# Altium schematic symbol library SCH - POWER - LINEAR VREG - TI TPS79501QDRBRQ1.Schlib: 1 symbol
Pins are listed as number, name and electrical type; pins without a type are passive.

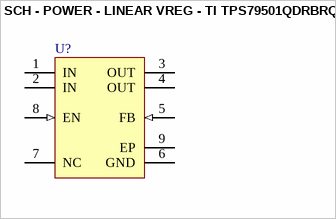
[diagram p0: symbol SCH - POWER - LINEAR VREG - TI TPS79501QDRBRQ1]

## SCH - POWER - LINEAR VREG - TI TPS79501QDRBRQ1
designator U?
footprint TI-DRB8-2400X1650TP_V (SON, 8-Leads, Body 3x3mm, Pitch 0.65mm, Thermal Pad 2.4x1.65mm)
pins: 1 IN (power) "Unregulated input to the device", 2 IN (power) "Unregulated input to the device", 3 OUT (power) "Regulator output.", 4 OUT (power) "Regulator output.", 5 FB (in) "Feedback input voltage for the adjustable device.", 6 GND (power) "Regulator ground", 7 NC "Not connected", 8 EN (in) "Driving the enable pin (EN) high turns on the regulator. Driving this pin low puts the regulator into shutdown mode. EN can be connected to IN if not used.", 9 EP "Exposed Thermal Pad"